# Altium schematic symbol library sym-0015.SchLib: 1 symbol
Pins are listed as number, name and electrical type; pins without a type are passive.

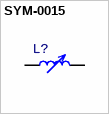
[diagram p0: symbol SYM-0015]

## SYM-0015
designator L?
Variable Inductor
pins: 1, 2